# Altium footprint library 1KSMB39CA.PcbLib: 3 footprints
Each footprint in its own frame and in the unit in brackets; x right, y up, seen from the top. Pads: shape width x height; smd on the part's side, far side on the other; paste and mask are expansions set on the pad; w line width, h text height; cw(c..) or ccw(c..) is an arc to the next point about the centre after c.
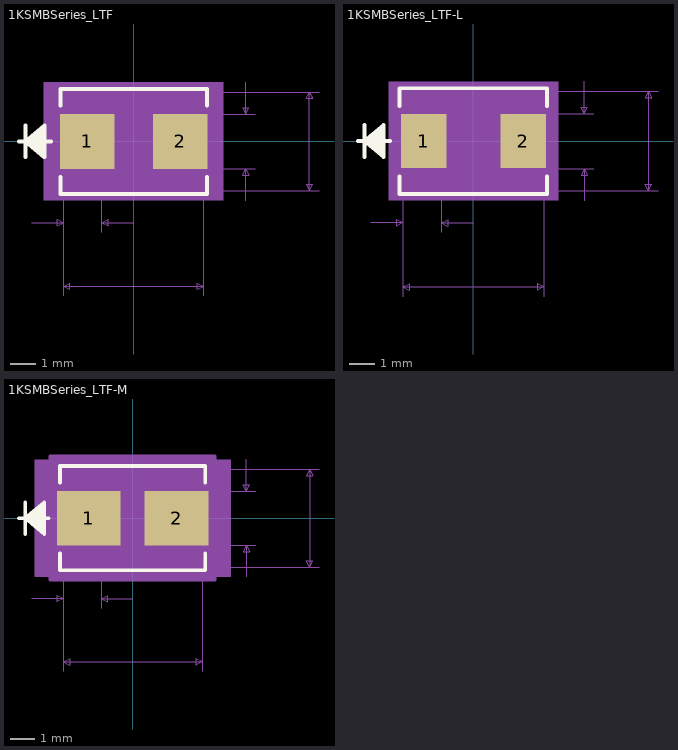
[diagram p0: the footprints below, top view; thin cyan lines are the x and y axes]

## 1KSMBSeries_LTF [mil]
pads (2):
  rect 86x86 smd paste+0 mask+0: 1(-73,0) 2(73,0)
Top Overlay:
  lines w6: -180,0 -130,0 ; -170,-25 -170,25 ; -140,-20 -170,0 ; -140,-15 -170,0 ; -140,-10 -170,0 ; -140,-5 -170,0 ; -140,5 -170,0 ; -140,10 -170,0 ; -140,15 -170,0 ; -140,20 -170,0 ; -115,-56.1 -115,-82.5 115,-82.5 115,-56.1 ; -115,56.1 -115,82.5 115,82.5 115,56.1 ; -170,0 -140,-25 -140,25 -170,0
Mechanical 5:
  region: 141,-92.5 -141,-92.5 -141,92.5 141,92.5
Mechanical 7:
  lines w1: -160,-127.5 -110,-127.5 ; -110,-242.5 -110,0 -110,-142.5 ; -50,-142.5 -50,0 ; 0,-127.5 -50,-127.5 ; 110,-242.5 110,0 ; 126,-77.5 291,-77.5 ; 126,-43 191,-43 ; 126,43 191,43 ; 126,77.5 291,77.5 ; 176,-93 176,-43 ; 176,93 176,43 ; -110,-227.5 -100,-232.5 -100,-222.5 -110,-227.5 ; -110,-227.5 110,-227.5 ; -110,-127.5 -120,-132.5 -120,-122.5 -110,-127.5 ; -50,-127.5 -40,-132.5 -40,-122.5 -50,-127.5 ; 110,-227.5 100,-232.5 100,-222.5 110,-227.5 ; 176,-43 181,-53 171,-53 176,-43 ; 176,43 181,53 171,53 176,43 ; 276,-77.5 281,-67.5 271,-67.5 276,-77.5 ; 276,-77.5 276,77.5 ; 276,77.5 281,67.5 271,67.5 276,77.5
  text "0.06in/1.524mm" at -167.5,-172.5 h25
  text "0.22in/5.588mm" at -87.5,-272.5 h25
  text "0.155in/3.937mm" at 296,-12.5 h25
  text "0.086in/2.184mm" at 196,-12.5 h25
  text "Alt 2 Padstyle: OX90Y60D30P" at -337.5,-502.5 h50
  text "Alt 1 Padstyle: OX60Y90D30P" at -337.5,-427.5 h50
  text "Default Padstyle: RX86Y86D0T" at -350,-352.5 h50
Mechanical 13:
  lines w1: -180,0 -130,0 ; -170,-25 -170,25 ; -140,-20 -170,0 ; -140,-15 -170,0 ; -140,-10 -170,0 ; -140,-5 -170,0 ; -140,5 -170,0 ; -140,10 -170,0 ; -140,15 -170,0 ; -140,20 -170,0 ; -170,0 -140,-25 -140,25 -170,0 ; -110,-77.5 -110,77.5 110,77.5 110,-77.5 -110,-77.5
Mechanical 15:
  region: -120,-53 -126,-53 -126,53 -120,53 -120,87.5 120,87.5 120,53 126,53 126,-53 120,-53 120,-87.5 -120,-87.5
  lines w6: -126,-53 -120,-53 -120,-87.5 120,-87.5 120,-53 126,-53 126,53 120,53 120,87.5 -120,87.5 -120,53 -126,53 -126,-53
3D body "1KSMBSeries_LTF.step": height 97.99, standoff 0, extent -110,-77.48 110,77.48
3D body "1KSMBSeries_LTF.step": height 97.99, standoff 0, extent -110,-77.48 110,77.48

## 1KSMBSeries_LTF-L [mil]
pads (2):
  rect 71x84 smd paste+0 mask+0: 1(-77.5,0) 2(77.5,0)
Top Overlay:
  lines w6: -180,0 -130,0 ; -170,-25 -170,25 ; -140,-20 -170,0 ; -140,-15 -170,0 ; -140,-10 -170,0 ; -140,-5 -170,0 ; -140,5 -170,0 ; -140,10 -170,0 ; -140,15 -170,0 ; -140,20 -170,0 ; -115,-54.95 -115,-82.5 115,-82.5 115,-54.95 ; -115,54.95 -115,82.5 115,82.5 115,54.95 ; -170,0 -140,25 -140,-25 -170,0
Mechanical 5:
  region: 132,-92.5 -132,-92.5 -132,92.5 132,92.5
Mechanical 7:
  lines w1: -160,-127.5 -110,-127.5 ; -110,-242.5 -110,0 -110,-142.5 ; -50,-142.5 -50,0 ; 0,-127.5 -50,-127.5 ; 110,-242.5 110,0 ; 123,-77.5 288,-77.5 ; 123,-43 188,-43 ; 123,43 188,43 ; 123,77.5 288,77.5 ; 173,-93 173,-43 ; 173,93 173,43 ; -110,-227.5 110,-227.5 ; -110,-227.5 -100,-222.5 -100,-232.5 -110,-227.5 ; -110,-127.5 -120,-122.5 -120,-132.5 -110,-127.5 ; -50,-127.5 -40,-122.5 -40,-132.5 -50,-127.5 ; 110,-227.5 100,-222.5 100,-232.5 110,-227.5 ; 173,-43 168,-53 178,-53 173,-43 ; 173,43 168,53 178,53 173,43 ; 273,-77.5 273,77.5 ; 273,-77.5 268,-67.5 278,-67.5 273,-77.5 ; 273,77.5 268,67.5 278,67.5 273,77.5
  text "Default Padstyle: RX71Y84D0T" at -350,-352.5 h50
  text "Alt 1 Padstyle: OX60Y90D30P" at -337.5,-427.5 h50
  text "Alt 2 Padstyle: OX90Y60D30P" at -337.5,-502.5 h50
  text "0.086in/2.184mm" at 193,-12.5 h25
  text "0.155in/3.937mm" at 293,-12.5 h25
  text "0.22in/5.588mm" at -87.5,-272.5 h25
  text "0.06in/1.524mm" at -167.5,-172.5 h25
Mechanical 13:
  lines w1: -180,0 -130,0 ; -170,-25 -170,25 ; -140,-20 -170,0 ; -140,-15 -170,0 ; -140,-10 -170,0 ; -140,-5 -170,0 ; -140,5 -170,0 ; -140,10 -170,0 ; -140,15 -170,0 ; -140,20 -170,0 ; -170,0 -140,25 -140,-25 -170,0 ; -110,-77.5 110,-77.5 110,77.5 -110,77.5 -110,-77.5
Mechanical 15:
  region: -114,-47 -117,-47 -117,47 -114,47 -114,81.5 114,81.5 114,47 117,47 117,-47 114,-47 114,-81.5 -114,-81.5
  lines w6: -117,-47 -117,47 -114,47 -114,81.5 114,81.5 114,47 117,47 117,-47 114,-47 114,-81.5 -114,-81.5 -114,-47 -117,-47
3D body "1KSMBSeries_LTF.step": height 97.99, standoff 0, extent -110,-77.48 110,77.48

## 1KSMBSeries_LTF-M [mil]
pads (2):
  rect 101x86 smd paste+0 mask+0: 1(-69.5,0) 2(69.5,0)
Top Overlay:
  lines w6: -180,0 -133.1,0 ; -170,-25 -170,25 ; -140,-20 -170,0 ; -140,-15 -170,0 ; -140,-10 -170,0 ; -140,-5 -170,0 ; -140,5 -170,0 ; -140,10 -170,0 ; -140,15 -170,0 ; -140,20 -170,0 ; -115,-56.1 -115,-82.5 115,-82.5 115,-56.1 ; -115,56.1 -115,82.5 115,82.5 115,56.1 ; -170,0 -140,25 -140,-25 -170,0
Mechanical 5:
  region: 155,-92.5 -155,-92.5 -155,92.5 155,92.5
Mechanical 7:
  lines w1: -160,-127.5 -110,-127.5 ; -110,-242.5 -110,0 -110,-142.5 ; -50,-142.5 -50,0 ; 0,-127.5 -50,-127.5 ; 110,-242.5 110,0 ; 130,-77.5 295,-77.5 ; 130,-43 195,-43 ; 130,43 195,43 ; 130,77.5 295,77.5 ; 180,-93 180,-43 ; 180,93 180,43 ; -110,-227.5 110,-227.5 ; -110,-227.5 -100,-222.5 -100,-232.5 -110,-227.5 ; -110,-127.5 -120,-122.5 -120,-132.5 -110,-127.5 ; -50,-127.5 -40,-122.5 -40,-132.5 -50,-127.5 ; 110,-227.5 100,-222.5 100,-232.5 110,-227.5 ; 180,-43 175,-53 185,-53 180,-43 ; 180,43 175,53 185,53 180,43 ; 280,-77.5 280,77.5 ; 280,-77.5 275,-67.5 285,-67.5 280,-77.5 ; 280,77.5 275,67.5 285,67.5 280,77.5
  text "Default Padstyle: RX101Y86D0T" at -362.5,-352.5 h50
  text "Alt 1 Padstyle: OX60Y90D30P" at -337.5,-427.5 h50
  text "Alt 2 Padstyle: OX90Y60D30P" at -337.5,-502.5 h50
  text "0.086in/2.184mm" at 200,-12.5 h25
  text "0.155in/3.937mm" at 300,-12.5 h25
  text "0.22in/5.588mm" at -87.5,-272.5 h25
  text "0.06in/1.524mm" at -167.5,-172.5 h25
Mechanical 13:
  lines w1: -180,0 -130,0 ; -170,-25 -170,25 ; -140,-20 -170,0 ; -140,-15 -170,0 ; -140,-10 -170,0 ; -140,-5 -170,0 ; -140,5 -170,0 ; -140,10 -170,0 ; -140,15 -170,0 ; -140,20 -170,0 ; -170,0 -140,25 -140,-25 -170,0 ; -110,-77.5 110,-77.5 110,77.5 -110,77.5 -110,-77.5
Mechanical 15:
  region: -130,-63 -140,-63 -140,63 -130,63 -130,97.5 130,97.5 130,63 140,63 140,-63 130,-63 130,-97.5 -130,-97.5
  lines w6: -140,-63 -140,63 -130,63 -130,97.5 130,97.5 130,63 140,63 140,-63 130,-63 130,-97.5 -130,-97.5 -130,-63 -140,-63
3D body "1KSMBSeries_LTF.step": height 97.99, standoff 0, extent -110,-77.48 110,77.48